# Altium footprint library MISC.PcbLib: 18 footprints (part 2 of 2)
Each footprint in its own frame and in the unit in brackets; x right, y up, seen from the top. Pads: shape width x height; smd on the part's side, far side on the other; paste and mask are expansions set on the pad; w line width, h text height; cw(c..) or ccw(c..) is an arc to the next point about the centre after c.
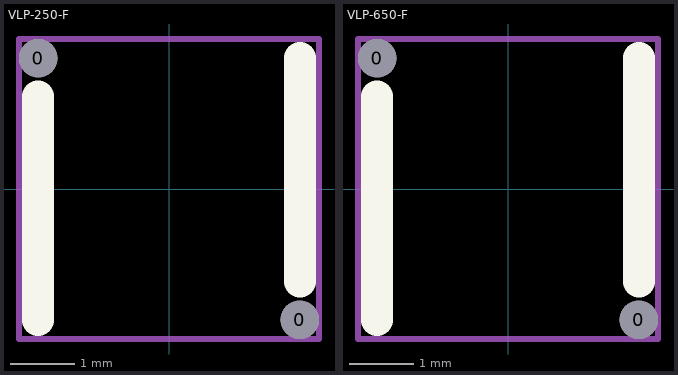
[diagram p1: the footprints below, top view; thin cyan lines are the x and y axes]

## VLP-250-F [mm] "Light Pipe Vert SMD Flat Face"
pads (2):
  round 0.6 hole 0.6 unplated: 0(-2.05,2.05) 0(2.05,-2.05)
Top Overlay:
  lines w0.5: -2.05,-2.05 -2.05,1.45 ; 2.05,-1.45 2.05,2.05
Top Assembly:
  lines w0.102: -2.35,-2.35 -2.35,2.35 2.35,2.35 2.35,-2.35 -2.35,-2.35
  text ".Designator" at -1.397,-0.381 h1
3D body "VLP-250-F.step": height 6.4, standoff -1.47, extent -2.35,-2.349 2.349,2.35

## VLP-650-F [mm]
pads (2):
  round 0.6 hole 0.6 unplated: 0(-2.05,2.05) 0(2.05,-2.05)
Top Overlay:
  lines w0.5: -2.05,-2.05 -2.05,1.45 ; 2.05,-1.45 2.05,2.05
Top Assembly:
  lines w0.102: -2.35,-2.35 2.35,-2.35 2.35,2.35 -2.35,2.35 -2.35,-2.35
  text ".Designator" at -1.397,-0.381 h1
3D body "BIVAR__INC_VLP-650-F.step": height 16.51, standoff -1.52, extent -2.35,-2.349 2.349,2.35